# Altium integrated library TI Data Converters Digital to Analog Converter.IntLib: 1533 symbols (part 76 of 99)
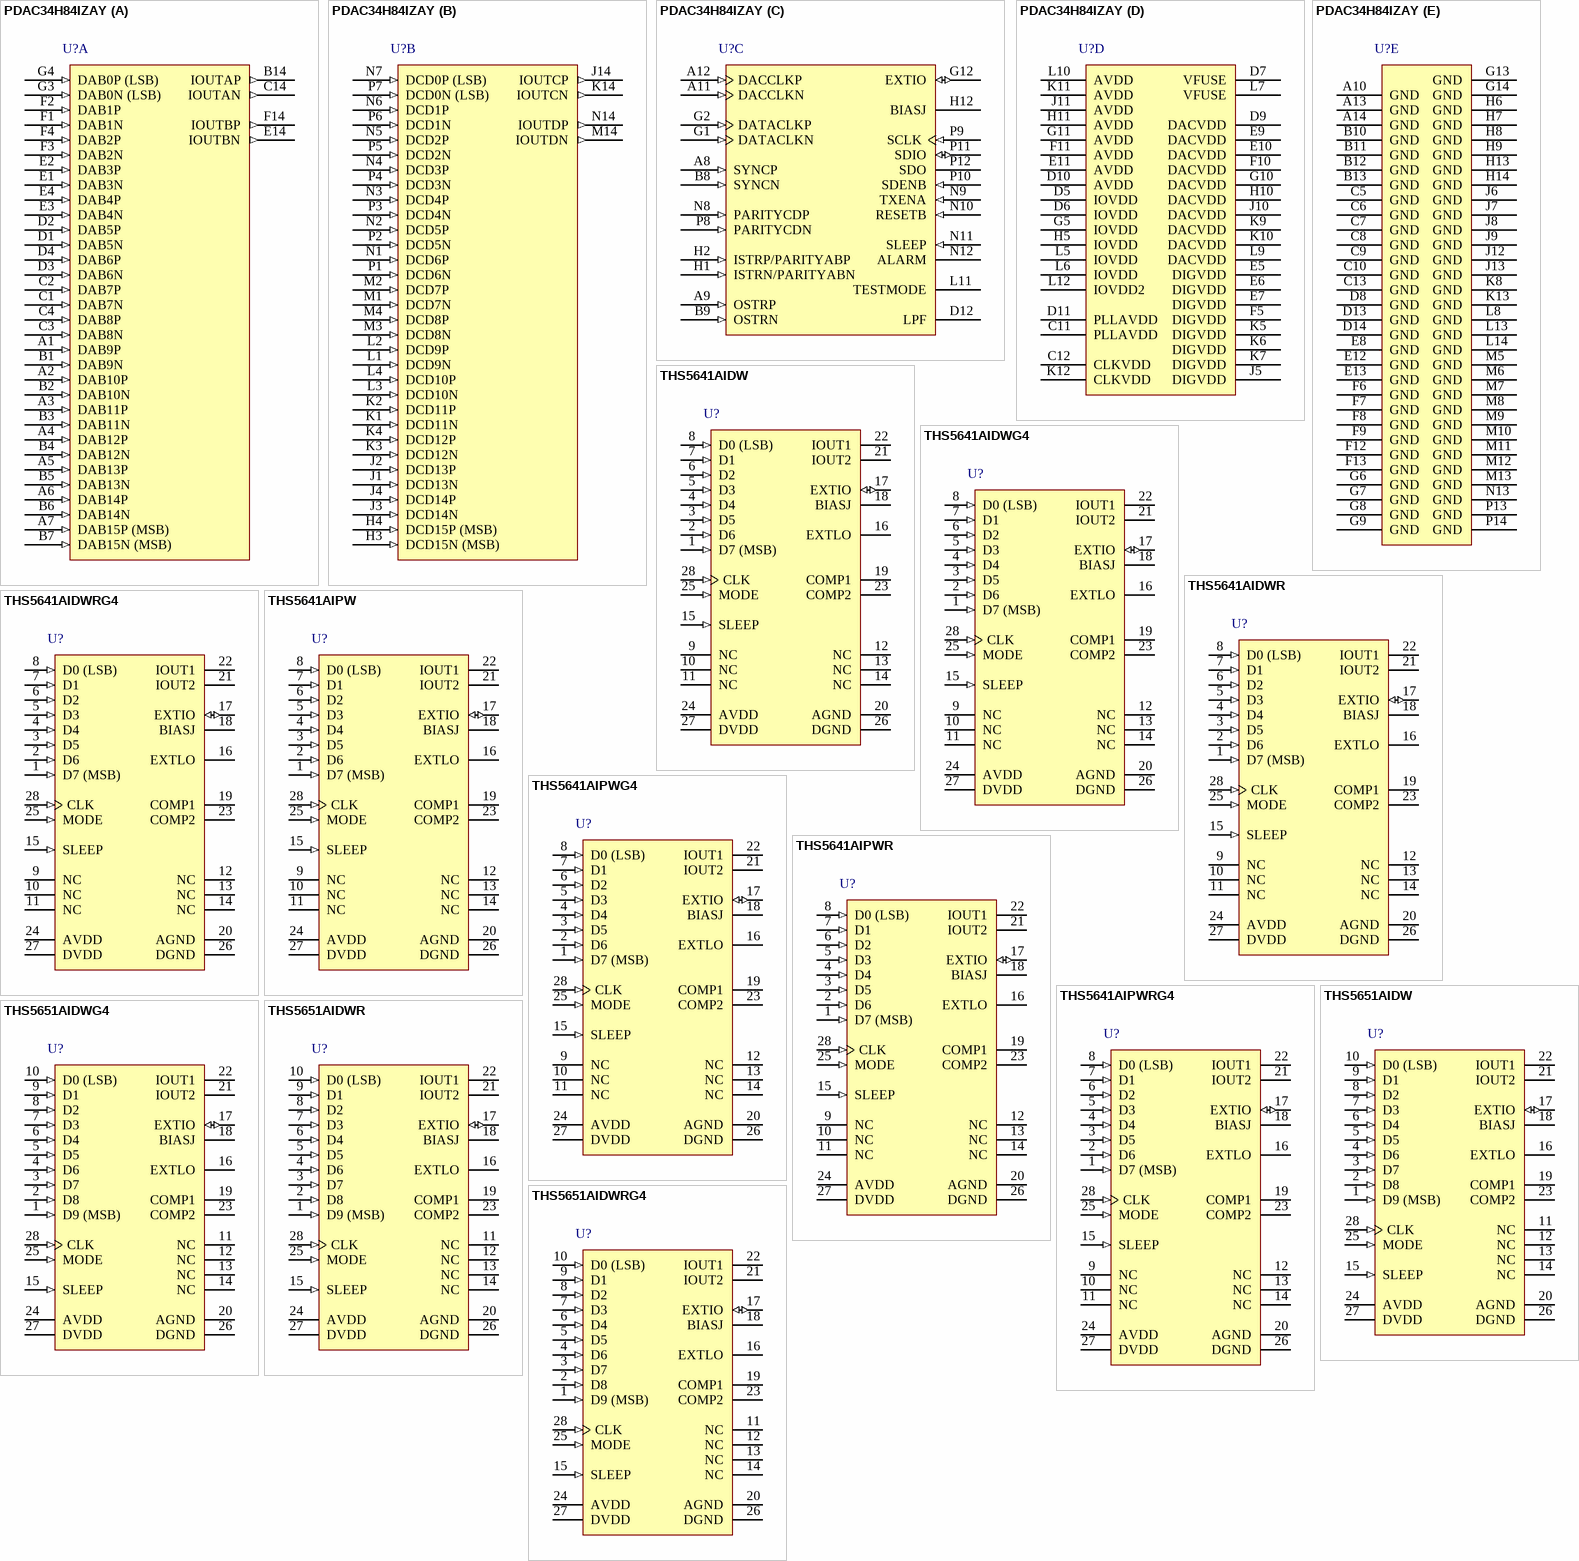
[diagram p148: symbols PDAC34H84IZAY to THS5651AIDWRG4]

## THS5641AIPWR
designator U?
8-Bit, 100 MSPS, CommsDAC(TM) DAC Scalable Current Outputs between 2 to 20 mA, -40 to 85 degC, 28-pin SOP (PW28), Green (RoHS & no Sb/Br); Manufacturer: Texas Instruments; PartNumber: THS5641AIPWR; DAC Channels: 1; DNL(Max)(+/-LSB): 0.25; Interface: Parallel CMOS; Power Consumption(Typ)(mW): 175; Resolution(Bits): 8; Settling Time(us): 0.035; SFDR(dB): 68; SubFamily: High Speed DAC (>10MSPS); DatasheetVersion: SLAS277A; PackageVersion: 4040064-7/G, 02/2011; PackageReference: PW28; PackageDescription: 28-Pin Plastic Small Outline, Body 9.7 x 4.4 mm, Pitch 0.65 mm; Supplier 1: Digi-Key; Supplier Part Number 1: THS5641AIPWR-ND; Supplier 2: Newark; Supplier Part Number 2: 76C6490; Supplier 3: Mouser; Supplier Part Number 3: 595-THS5641AIPWR; Eco-Plan: Green (RoHS & no Sb/Br); INL(Max)(+/-LSB): 0.25; Mounting Technology: Surface Mount; Code_JEDEC: MO-153; ComponentLink1Description: Manufacturer URL; ComponentLink1URL: http://www.ti.com/; ComponentLink2Description: Datasheet; ComponentLink2URL: http://www.ti.com/general/docs/lit/getliterature.tsp?genericPartNumber=THS5641A&fileType=pdf; ComponentLink3Description: Package Specification; ComponentLink3URL: http://www.ti.com/litv/pdf/mpds364
footprint TI-PW28_N (SOP, 28-Leads, Body 9.7x4.4mm, Pitch 0.65mm, IPC Medium Density)
footprint TI-PW28_L (SOP, 28-Leads, Body 9.7x4.4mm, Pitch 0.65mm, IPC High Density)
footprint TI-PW28_M (SOP, 28-Leads, Body 9.7x4.4mm, Pitch 0.65mm, IPC Low Density)
pins: 1 D7 (MSB) (in) "Data bits 0 through 7. D7 is most significant data bit (MSB), D0 is least significant data bit (LSB).", 2 D6 (in) "Data bits 0 through 7. D7 is most significant data bit (MSB), D0 is least significant data bit (LSB).", 3 D5 (in) "Data bits 0 through 7. D7 is most significant data bit (MSB), D0 is least significant data bit (LSB).", 4 D4 (in) "Data bits 0 through 7. D7 is most significant data bit (MSB), D0 is least significant data bit (LSB).", 5 D3 (in) "Data bits 0 through 7. D7 is most significant data bit (MSB), D0 is least significant data bit (LSB).", 6 D2 (in) "Data bits 0 through 7. D7 is most significant data bit (MSB), D0 is least significant data bit (LSB).", 7 D1 (in) "Data bits 0 through 7. D7 is most significant data bit (MSB), D0 is least significant data bit (LSB).", 8 D0 (LSB) (in) "Data bits 0 through 7. D7 is most significant data bit (MSB), D0 is least significant data bit (LSB).", 9 NC "No connection", 10 NC "No connection", 11 NC "No connection", 12 NC "No connection", 13 NC "No connection", 14 NC "No connection", 15 SLEEP (in) "Asynchronous hardware power down input. Active High. Internal pulldown. Requires 5 us to power down but 3 ms to power up.", 16 EXTLO "Internal reference ground. Connect to AVDD to disable the internal reference source", 17 EXTIO (io) "Used as external reference input when internal reference is disabled (i.e., EXTLO = AVDD). Used as internal reference output when EXTLO = AGND, requires a 0.1 uF decoupling capacitor to AGND when used as reference output", 18 BIASJ "Full-scale output current bias", 19 COMP1 "Compensation and decoupling node, requires a 0.1 uF capacitor to AVDD.", 20 AGND (power) "Analog ground return for the internal analog circuitry", 21 IOUT2 (hiz) "Complementary DAC current output. Full scale when all input bits are 0", 22 IOUT1 (hiz) "DAC current output. Full scale when all input bits are set 1", 23 COMP2 "Internal bias node, requires a 0.1 uF decoupling capacitor to AGND.", 24 AVDD (power) "Positive analog supply voltage (3 V to 5.5 V)", 25 MODE (in) "Mode select. Internal pulldown. Mode 0 is selected if this pin is left floating or connected to DGND. See timing diagram.", 26 DGND (power) "Digital ground return for the internal digital logic circuitry", 27 DVDD (power) "Positive digital supply voltage (3 V to 5.5 V)", 28 CLK (in) "External clock input. Input data latched on rising edge of the clock."

## THS5641AIPWRG4
designator U?
8-Bit, 100 MSPS, CommsDAC(TM) DAC Scalable Current Outputs between 2 to 20 mA, -40 to 85 degC, 28-pin SOP (PW28), Green (RoHS & no Sb/Br); Manufacturer: Texas Instruments; PartNumber: THS5641AIPWRG4; DAC Channels: 1; DNL(Max)(+/-LSB): 0.25; Interface: Parallel CMOS; Power Consumption(Typ)(mW): 175; Resolution(Bits): 8; Settling Time(us): 0.035; SFDR(dB): 68; SubFamily: High Speed DAC (>10MSPS); DatasheetVersion: SLAS277A; PackageVersion: 4040064-7/G, 02/2011; PackageReference: PW28; PackageDescription: 28-Pin Plastic Small Outline, Body 9.7 x 4.4 mm, Pitch 0.65 mm; Supplier 1: Digi-Key; Supplier Part Number 1: THS5641AIPWRG4-ND; Supplier 2: Mouser; Supplier Part Number 2: 595-THS5641AIPWRG4; Eco-Plan: Green (RoHS & no Sb/Br); INL(Max)(+/-LSB): 0.25; Mounting Technology: Surface Mount; Code_JEDEC: MO-153; ComponentLink1Description: Manufacturer URL; ComponentLink1URL: http://www.ti.com/; ComponentLink2Description: Datasheet; ComponentLink2URL: http://www.ti.com/general/docs/lit/getliterature.tsp?genericPartNumber=THS5641A&fileType=pdf; ComponentLink3Description: Package Specification; ComponentLink3URL: http://www.ti.com/litv/pdf/mpds364
footprint TI-PW28_N (SOP, 28-Leads, Body 9.7x4.4mm, Pitch 0.65mm, IPC Medium Density)
footprint TI-PW28_L (SOP, 28-Leads, Body 9.7x4.4mm, Pitch 0.65mm, IPC High Density)
footprint TI-PW28_M (SOP, 28-Leads, Body 9.7x4.4mm, Pitch 0.65mm, IPC Low Density)
pins: 1 D7 (MSB) (in) "Data bits 0 through 7. D7 is most significant data bit (MSB), D0 is least significant data bit (LSB).", 2 D6 (in) "Data bits 0 through 7. D7 is most significant data bit (MSB), D0 is least significant data bit (LSB).", 3 D5 (in) "Data bits 0 through 7. D7 is most significant data bit (MSB), D0 is least significant data bit (LSB).", 4 D4 (in) "Data bits 0 through 7. D7 is most significant data bit (MSB), D0 is least significant data bit (LSB).", 5 D3 (in) "Data bits 0 through 7. D7 is most significant data bit (MSB), D0 is least significant data bit (LSB).", 6 D2 (in) "Data bits 0 through 7. D7 is most significant data bit (MSB), D0 is least significant data bit (LSB).", 7 D1 (in) "Data bits 0 through 7. D7 is most significant data bit (MSB), D0 is least significant data bit (LSB).", 8 D0 (LSB) (in) "Data bits 0 through 7. D7 is most significant data bit (MSB), D0 is least significant data bit (LSB).", 9 NC "No connection", 10 NC "No connection", 11 NC "No connection", 12 NC "No connection", 13 NC "No connection", 14 NC "No connection", 15 SLEEP (in) "Asynchronous hardware power down input. Active High. Internal pulldown. Requires 5 us to power down but 3 ms to power up.", 16 EXTLO "Internal reference ground. Connect to AVDD to disable the internal reference source", 17 EXTIO (io) "Used as external reference input when internal reference is disabled (i.e., EXTLO = AVDD). Used as internal reference output when EXTLO = AGND, requires a 0.1 uF decoupling capacitor to AGND when used as reference output", 18 BIASJ "Full-scale output current bias", 19 COMP1 "Compensation and decoupling node, requires a 0.1 uF capacitor to AVDD.", 20 AGND (power) "Analog ground return for the internal analog circuitry", 21 IOUT2 (hiz) "Complementary DAC current output. Full scale when all input bits are 0", 22 IOUT1 (hiz) "DAC current output. Full scale when all input bits are set 1", 23 COMP2 "Internal bias node, requires a 0.1 uF decoupling capacitor to AGND.", 24 AVDD (power) "Positive analog supply voltage (3 V to 5.5 V)", 25 MODE (in) "Mode select. Internal pulldown. Mode 0 is selected if this pin is left floating or connected to DGND. See timing diagram.", 26 DGND (power) "Digital ground return for the internal digital logic circuitry", 27 DVDD (power) "Positive digital supply voltage (3 V to 5.5 V)", 28 CLK (in) "External clock input. Input data latched on rising edge of the clock."

## THS5651AIDW
designator U?
10-Bit, 125 MSPS, CommsDAC, Differential Scalable Current Outputs between 2 to 20 mA, -40 to 85 degC, 28-pin SOIC (DW28), Green (RoHS & no Sb/Br); Manufacturer: Texas Instruments; PartNumber: THS5651AIDW; DAC Channels: 1; DNL(Max)(+/-LSB): 0.5; Interface: Parallel CMOS; Power Consumption(Typ)(mW): 175; Resolution(Bits): 10; Settling Time(us): 0.035; SFDR(dB): 79; SubFamily: High Speed DAC (>10MSPS); DatasheetVersion: SLAS260A; PackageVersion: 4040000-6/G, 01/2011; PackageReference: DW28; PackageDescription: 28-Pin Plastic Small Outline, Body 17.90 x 7.50 mm, Pitch 1.27 mm; Supplier 1: Digi-Key; Supplier Part Number 1: 296-2992-5-ND; Supplier 2: Farnell; Supplier Part Number 2: 4512492; Supplier 3: Newark; Supplier Part Number 3: 19C8978; Supplier 4: Mouser; Supplier Part Number 4: 595-THS5651AIDW; Eco-Plan: Green (RoHS & no Sb/Br); INL(Max)(+/-LSB): 1; Mounting Technology: Surface Mount; Code_JEDEC: MS-013; ComponentLink1Description: Manufacturer URL; ComponentLink1URL: http://www.ti.com/; ComponentLink2Description: Datasheet; ComponentLink2URL: http://www.ti.com/general/docs/lit/getliterature.tsp?genericPartNumber=THS5651A&fileType=pdf; ComponentLink3Description: Package Specification; ComponentLink3URL: http://www.ti.com/lit/ml/mpds175a/mpds175a.pdf
footprint TI-DW28_N (SOIC, 28-Leads, Body 17.9x7.5mm, Pitch 1.27mm, IPC Medium Density)
footprint TI-DW28_L (SOIC, 28-Leads, Body 17.9x7.5mm, Pitch 1.27mm, IPC High Density)
footprint TI-DW28_M (SOIC, 28-Leads, Body 17.9x7.5mm, Pitch 1.27mm, IPC Low Density)
pins: 1 D9 (MSB) (in) "Data bits 0 through 9. D9 is most significant data bit (MSB), D0 is least significant data bit (LSB).", 2 D8 (in) "Data bits 0 through 9. D9 is most significant data bit (MSB), D0 is least significant data bit (LSB).", 3 D7 (in) "Data bits 0 through 9. D9 is most significant data bit (MSB), D0 is least significant data bit (LSB).", 4 D6 (in) "Data bits 0 through 9. D9 is most significant data bit (MSB), D0 is least significant data bit (LSB).", 5 D5 (in) "Data bits 0 through 9. D9 is most significant data bit (MSB), D0 is least significant data bit (LSB).", 6 D4 (in) "Data bits 0 through 9. D9 is most significant data bit (MSB), D0 is least significant data bit (LSB).", 7 D3 (in) "Data bits 0 through 9. D9 is most significant data bit (MSB), D0 is least significant data bit (LSB).", 8 D2 (in) "Data bits 0 through 9. D9 is most significant data bit (MSB), D0 is least significant data bit (LSB).", 9 D1 (in) "Data bits 0 through 9. D9 is most significant data bit (MSB), D0 is least significant data bit (LSB).", 10 D0 (LSB) (in) "Data bits 0 through 9. D9 is most significant data bit (MSB), D0 is least significant data bit (LSB).", 11 NC "No connection", 12 NC "No connection", 13 NC "No connection", 14 NC "No connection", 15 SLEEP (in) "Asynchronous hardware power down input. Active High. Internal pulldown. Requires 5 us to power down but 3 ms to power up.", 16 EXTLO "Internal reference ground. Connect to AVDD to disable the internal reference source", 17 EXTIO (io) "Used as external reference input when internal reference is disabled (i.e., EXTLO = AVDD). Used as internal reference output when EXTLO = AGND, requires a 0.1 uF decoupling capacitor to AGND when used as reference output", 18 BIASJ "Full-scale output current bias", 19 COMP1 "Compensation and decoupling node, requires a 0.1 uF capacitor to AVDD.", 20 AGND (power) "Analog ground return for the internal analog circuitry", 21 IOUT2 (hiz) "Complementary DAC current output. Full scale when all input bits are 0", 22 IOUT1 (hiz) "DAC current output. Full scale when all input bits are set 1", 23 COMP2 "Internal bias node, requires a 0.1 uF decoupling capacitor to AGND.", 24 AVDD (power) "Positive analog supply voltage (3 V to 5.5 V)", 25 MODE (in) "Mode select. Internal pulldown. Mode 0 is selected if this pin is left floating or connected to DGND. See timing diagram.", 26 DGND (power) "Digital ground return for the internal digital logic circuitry", 27 DVDD (power) "Positive digital supply voltage (3 V to 5.5 V)", 28 CLK (in) "External clock input. Input data latched on rising edge of the clock."

## THS5651AIDWG4
designator U?
10-Bit, 125 MSPS, CommsDAC, Differential Scalable Current Outputs between 2 to 20 mA, -40 to 85 degC, 28-pin SOIC (DW28), Green (RoHS & no Sb/Br); Manufacturer: Texas Instruments; PartNumber: THS5651AIDWG4; DAC Channels: 1; DNL(Max)(+/-LSB): 0.5; Interface: Parallel CMOS; Power Consumption(Typ)(mW): 175; Resolution(Bits): 10; Settling Time(us): 0.035; SFDR(dB): 79; SubFamily: High Speed DAC (>10MSPS); DatasheetVersion: SLAS260A; PackageVersion: 4040000-6/G, 01/2011; PackageReference: DW28; PackageDescription: 28-Pin Plastic Small Outline, Body 17.90 x 7.50 mm, Pitch 1.27 mm; Supplier 1: Digi-Key; Supplier Part Number 1: THS5651AIDWG4-ND; Supplier 2: Mouser; Supplier Part Number 2: 595-THS5651AIDWG4; Eco-Plan: Green (RoHS & no Sb/Br); INL(Max)(+/-LSB): 1; Mounting Technology: Surface Mount; Code_JEDEC: MS-013; ComponentLink1Description: Manufacturer URL; ComponentLink1URL: http://www.ti.com/; ComponentLink2Description: Datasheet; ComponentLink2URL: http://www.ti.com/general/docs/lit/getliterature.tsp?genericPartNumber=THS5651A&fileType=pdf; ComponentLink3Description: Package Specification; ComponentLink3URL: http://www.ti.com/lit/ml/mpds175a/mpds175a.pdf
footprint TI-DW28_N (SOIC, 28-Leads, Body 17.9x7.5mm, Pitch 1.27mm, IPC Medium Density)
footprint TI-DW28_L (SOIC, 28-Leads, Body 17.9x7.5mm, Pitch 1.27mm, IPC High Density)
footprint TI-DW28_M (SOIC, 28-Leads, Body 17.9x7.5mm, Pitch 1.27mm, IPC Low Density)
pins: 1 D9 (MSB) (in) "Data bits 0 through 9. D9 is most significant data bit (MSB), D0 is least significant data bit (LSB).", 2 D8 (in) "Data bits 0 through 9. D9 is most significant data bit (MSB), D0 is least significant data bit (LSB).", 3 D7 (in) "Data bits 0 through 9. D9 is most significant data bit (MSB), D0 is least significant data bit (LSB).", 4 D6 (in) "Data bits 0 through 9. D9 is most significant data bit (MSB), D0 is least significant data bit (LSB).", 5 D5 (in) "Data bits 0 through 9. D9 is most significant data bit (MSB), D0 is least significant data bit (LSB).", 6 D4 (in) "Data bits 0 through 9. D9 is most significant data bit (MSB), D0 is least significant data bit (LSB).", 7 D3 (in) "Data bits 0 through 9. D9 is most significant data bit (MSB), D0 is least significant data bit (LSB).", 8 D2 (in) "Data bits 0 through 9. D9 is most significant data bit (MSB), D0 is least significant data bit (LSB).", 9 D1 (in) "Data bits 0 through 9. D9 is most significant data bit (MSB), D0 is least significant data bit (LSB).", 10 D0 (LSB) (in) "Data bits 0 through 9. D9 is most significant data bit (MSB), D0 is least significant data bit (LSB).", 11 NC "No connection", 12 NC "No connection", 13 NC "No connection", 14 NC "No connection", 15 SLEEP (in) "Asynchronous hardware power down input. Active High. Internal pulldown. Requires 5 us to power down but 3 ms to power up.", 16 EXTLO "Internal reference ground. Connect to AVDD to disable the internal reference source", 17 EXTIO (io) "Used as external reference input when internal reference is disabled (i.e., EXTLO = AVDD). Used as internal reference output when EXTLO = AGND, requires a 0.1 uF decoupling capacitor to AGND when used as reference output", 18 BIASJ "Full-scale output current bias", 19 COMP1 "Compensation and decoupling node, requires a 0.1 uF capacitor to AVDD.", 20 AGND (power) "Analog ground return for the internal analog circuitry", 21 IOUT2 (hiz) "Complementary DAC current output. Full scale when all input bits are 0", 22 IOUT1 (hiz) "DAC current output. Full scale when all input bits are set 1", 23 COMP2 "Internal bias node, requires a 0.1 uF decoupling capacitor to AGND.", 24 AVDD (power) "Positive analog supply voltage (3 V to 5.5 V)", 25 MODE (in) "Mode select. Internal pulldown. Mode 0 is selected if this pin is left floating or connected to DGND. See timing diagram.", 26 DGND (power) "Digital ground return for the internal digital logic circuitry", 27 DVDD (power) "Positive digital supply voltage (3 V to 5.5 V)", 28 CLK (in) "External clock input. Input data latched on rising edge of the clock."

## THS5651AIDWR
designator U?
10-Bit, 125 MSPS, CommsDAC, Differential Scalable Current Outputs between 2 to 20 mA, -40 to 85 degC, 28-pin SOIC (DW28), Green (RoHS & no Sb/Br); Manufacturer: Texas Instruments; PartNumber: THS5651AIDWR; DAC Channels: 1; DNL(Max)(+/-LSB): 0.5; Interface: Parallel CMOS; Power Consumption(Typ)(mW): 175; Resolution(Bits): 10; Settling Time(us): 0.035; SFDR(dB): 79; SubFamily: High Speed DAC (>10MSPS); DatasheetVersion: SLAS260A; PackageVersion: 4040000-6/G, 01/2011; PackageReference: DW28; PackageDescription: 28-Pin Plastic Small Outline, Body 17.90 x 7.50 mm, Pitch 1.27 mm; Supplier 1: Digi-Key; Supplier Part Number 1: THS5651AIDWR-ND; Supplier 2: Mouser; Supplier Part Number 2: 595-THS5651AIDWR; Eco-Plan: Green (RoHS & no Sb/Br); INL(Max)(+/-LSB): 1; Mounting Technology: Surface Mount; Code_JEDEC: MS-013; ComponentLink1Description: Manufacturer URL; ComponentLink1URL: http://www.ti.com/; ComponentLink2Description: Datasheet; ComponentLink2URL: http://www.ti.com/general/docs/lit/getliterature.tsp?genericPartNumber=THS5651A&fileType=pdf; ComponentLink3Description: Package Specification; ComponentLink3URL: http://www.ti.com/lit/ml/mpds175a/mpds175a.pdf
footprint TI-DW28_N (SOIC, 28-Leads, Body 17.9x7.5mm, Pitch 1.27mm, IPC Medium Density)
footprint TI-DW28_L (SOIC, 28-Leads, Body 17.9x7.5mm, Pitch 1.27mm, IPC High Density)
footprint TI-DW28_M (SOIC, 28-Leads, Body 17.9x7.5mm, Pitch 1.27mm, IPC Low Density)
pins: 1 D9 (MSB) (in) "Data bits 0 through 9. D9 is most significant data bit (MSB), D0 is least significant data bit (LSB).", 2 D8 (in) "Data bits 0 through 9. D9 is most significant data bit (MSB), D0 is least significant data bit (LSB).", 3 D7 (in) "Data bits 0 through 9. D9 is most significant data bit (MSB), D0 is least significant data bit (LSB).", 4 D6 (in) "Data bits 0 through 9. D9 is most significant data bit (MSB), D0 is least significant data bit (LSB).", 5 D5 (in) "Data bits 0 through 9. D9 is most significant data bit (MSB), D0 is least significant data bit (LSB).", 6 D4 (in) "Data bits 0 through 9. D9 is most significant data bit (MSB), D0 is least significant data bit (LSB).", 7 D3 (in) "Data bits 0 through 9. D9 is most significant data bit (MSB), D0 is least significant data bit (LSB).", 8 D2 (in) "Data bits 0 through 9. D9 is most significant data bit (MSB), D0 is least significant data bit (LSB).", 9 D1 (in) "Data bits 0 through 9. D9 is most significant data bit (MSB), D0 is least significant data bit (LSB).", 10 D0 (LSB) (in) "Data bits 0 through 9. D9 is most significant data bit (MSB), D0 is least significant data bit (LSB).", 11 NC "No connection", 12 NC "No connection", 13 NC "No connection", 14 NC "No connection", 15 SLEEP (in) "Asynchronous hardware power down input. Active High. Internal pulldown. Requires 5 us to power down but 3 ms to power up.", 16 EXTLO "Internal reference ground. Connect to AVDD to disable the internal reference source", 17 EXTIO (io) "Used as external reference input when internal reference is disabled (i.e., EXTLO = AVDD). Used as internal reference output when EXTLO = AGND, requires a 0.1 uF decoupling capacitor to AGND when used as reference output", 18 BIASJ "Full-scale output current bias", 19 COMP1 "Compensation and decoupling node, requires a 0.1 uF capacitor to AVDD.", 20 AGND (power) "Analog ground return for the internal analog circuitry", 21 IOUT2 (hiz) "Complementary DAC current output. Full scale when all input bits are 0", 22 IOUT1 (hiz) "DAC current output. Full scale when all input bits are set 1", 23 COMP2 "Internal bias node, requires a 0.1 uF decoupling capacitor to AGND.", 24 AVDD (power) "Positive analog supply voltage (3 V to 5.5 V)", 25 MODE (in) "Mode select. Internal pulldown. Mode 0 is selected if this pin is left floating or connected to DGND. See timing diagram.", 26 DGND (power) "Digital ground return for the internal digital logic circuitry", 27 DVDD (power) "Positive digital supply voltage (3 V to 5.5 V)", 28 CLK (in) "External clock input. Input data latched on rising edge of the clock."

## THS5651AIDWRG4
designator U?
10-Bit, 125 MSPS, CommsDAC, Differential Scalable Current Outputs between 2 to 20 mA, -40 to 85 degC, 28-pin SOIC (DW28), Green (RoHS & no Sb/Br); Manufacturer: Texas Instruments; PartNumber: THS5651AIDWRG4; DAC Channels: 1; DNL(Max)(+/-LSB): 0.5; Interface: Parallel CMOS; Power Consumption(Typ)(mW): 175; Resolution(Bits): 10; Settling Time(us): 0.035; SFDR(dB): 79; SubFamily: High Speed DAC (>10MSPS); DatasheetVersion: SLAS260A; PackageVersion: 4040000-6/G, 01/2011; PackageReference: DW28; PackageDescription: 28-Pin Plastic Small Outline, Body 17.90 x 7.50 mm, Pitch 1.27 mm; Supplier 1: Digi-Key; Supplier Part Number 1: THS5651AIDWRG4-ND; Supplier 2: Mouser; Supplier Part Number 2: 595-THS5651AIDWRG4; Eco-Plan: Green (RoHS & no Sb/Br); INL(Max)(+/-LSB): 1; Mounting Technology: Surface Mount; Code_JEDEC: MS-013; ComponentLink1Description: Manufacturer URL; ComponentLink1URL: http://www.ti.com/; ComponentLink2Description: Datasheet; ComponentLink2URL: http://www.ti.com/general/docs/lit/getliterature.tsp?genericPartNumber=THS5651A&fileType=pdf; ComponentLink3Description: Package Specification; ComponentLink3URL: http://www.ti.com/lit/ml/mpds175a/mpds175a.pdf
footprint TI-DW28_N (SOIC, 28-Leads, Body 17.9x7.5mm, Pitch 1.27mm, IPC Medium Density)
footprint TI-DW28_L (SOIC, 28-Leads, Body 17.9x7.5mm, Pitch 1.27mm, IPC High Density)
footprint TI-DW28_M (SOIC, 28-Leads, Body 17.9x7.5mm, Pitch 1.27mm, IPC Low Density)
pins: 1 D9 (MSB) (in) "Data bits 0 through 9. D9 is most significant data bit (MSB), D0 is least significant data bit (LSB).", 2 D8 (in) "Data bits 0 through 9. D9 is most significant data bit (MSB), D0 is least significant data bit (LSB).", 3 D7 (in) "Data bits 0 through 9. D9 is most significant data bit (MSB), D0 is least significant data bit (LSB).", 4 D6 (in) "Data bits 0 through 9. D9 is most significant data bit (MSB), D0 is least significant data bit (LSB).", 5 D5 (in) "Data bits 0 through 9. D9 is most significant data bit (MSB), D0 is least significant data bit (LSB).", 6 D4 (in) "Data bits 0 through 9. D9 is most significant data bit (MSB), D0 is least significant data bit (LSB).", 7 D3 (in) "Data bits 0 through 9. D9 is most significant data bit (MSB), D0 is least significant data bit (LSB).", 8 D2 (in) "Data bits 0 through 9. D9 is most significant data bit (MSB), D0 is least significant data bit (LSB).", 9 D1 (in) "Data bits 0 through 9. D9 is most significant data bit (MSB), D0 is least significant data bit (LSB).", 10 D0 (LSB) (in) "Data bits 0 through 9. D9 is most significant data bit (MSB), D0 is least significant data bit (LSB).", 11 NC "No connection", 12 NC "No connection", 13 NC "No connection", 14 NC "No connection", 15 SLEEP (in) "Asynchronous hardware power down input. Active High. Internal pulldown. Requires 5 us to power down but 3 ms to power up.", 16 EXTLO "Internal reference ground. Connect to AVDD to disable the internal reference source", 17 EXTIO (io) "Used as external reference input when internal reference is disabled (i.e., EXTLO = AVDD). Used as internal reference output when EXTLO = AGND, requires a 0.1 uF decoupling capacitor to AGND when used as reference output", 18 BIASJ "Full-scale output current bias", 19 COMP1 "Compensation and decoupling node, requires a 0.1 uF capacitor to AVDD.", 20 AGND (power) "Analog ground return for the internal analog circuitry", 21 IOUT2 (hiz) "Complementary DAC current output. Full scale when all input bits are 0", 22 IOUT1 (hiz) "DAC current output. Full scale when all input bits are set 1", 23 COMP2 "Internal bias node, requires a 0.1 uF decoupling capacitor to AGND.", 24 AVDD (power) "Positive analog supply voltage (3 V to 5.5 V)", 25 MODE (in) "Mode select. Internal pulldown. Mode 0 is selected if this pin is left floating or connected to DGND. See timing diagram.", 26 DGND (power) "Digital ground return for the internal digital logic circuitry", 27 DVDD (power) "Positive digital supply voltage (3 V to 5.5 V)", 28 CLK (in) "External clock input. Input data latched on rising edge of the clock."

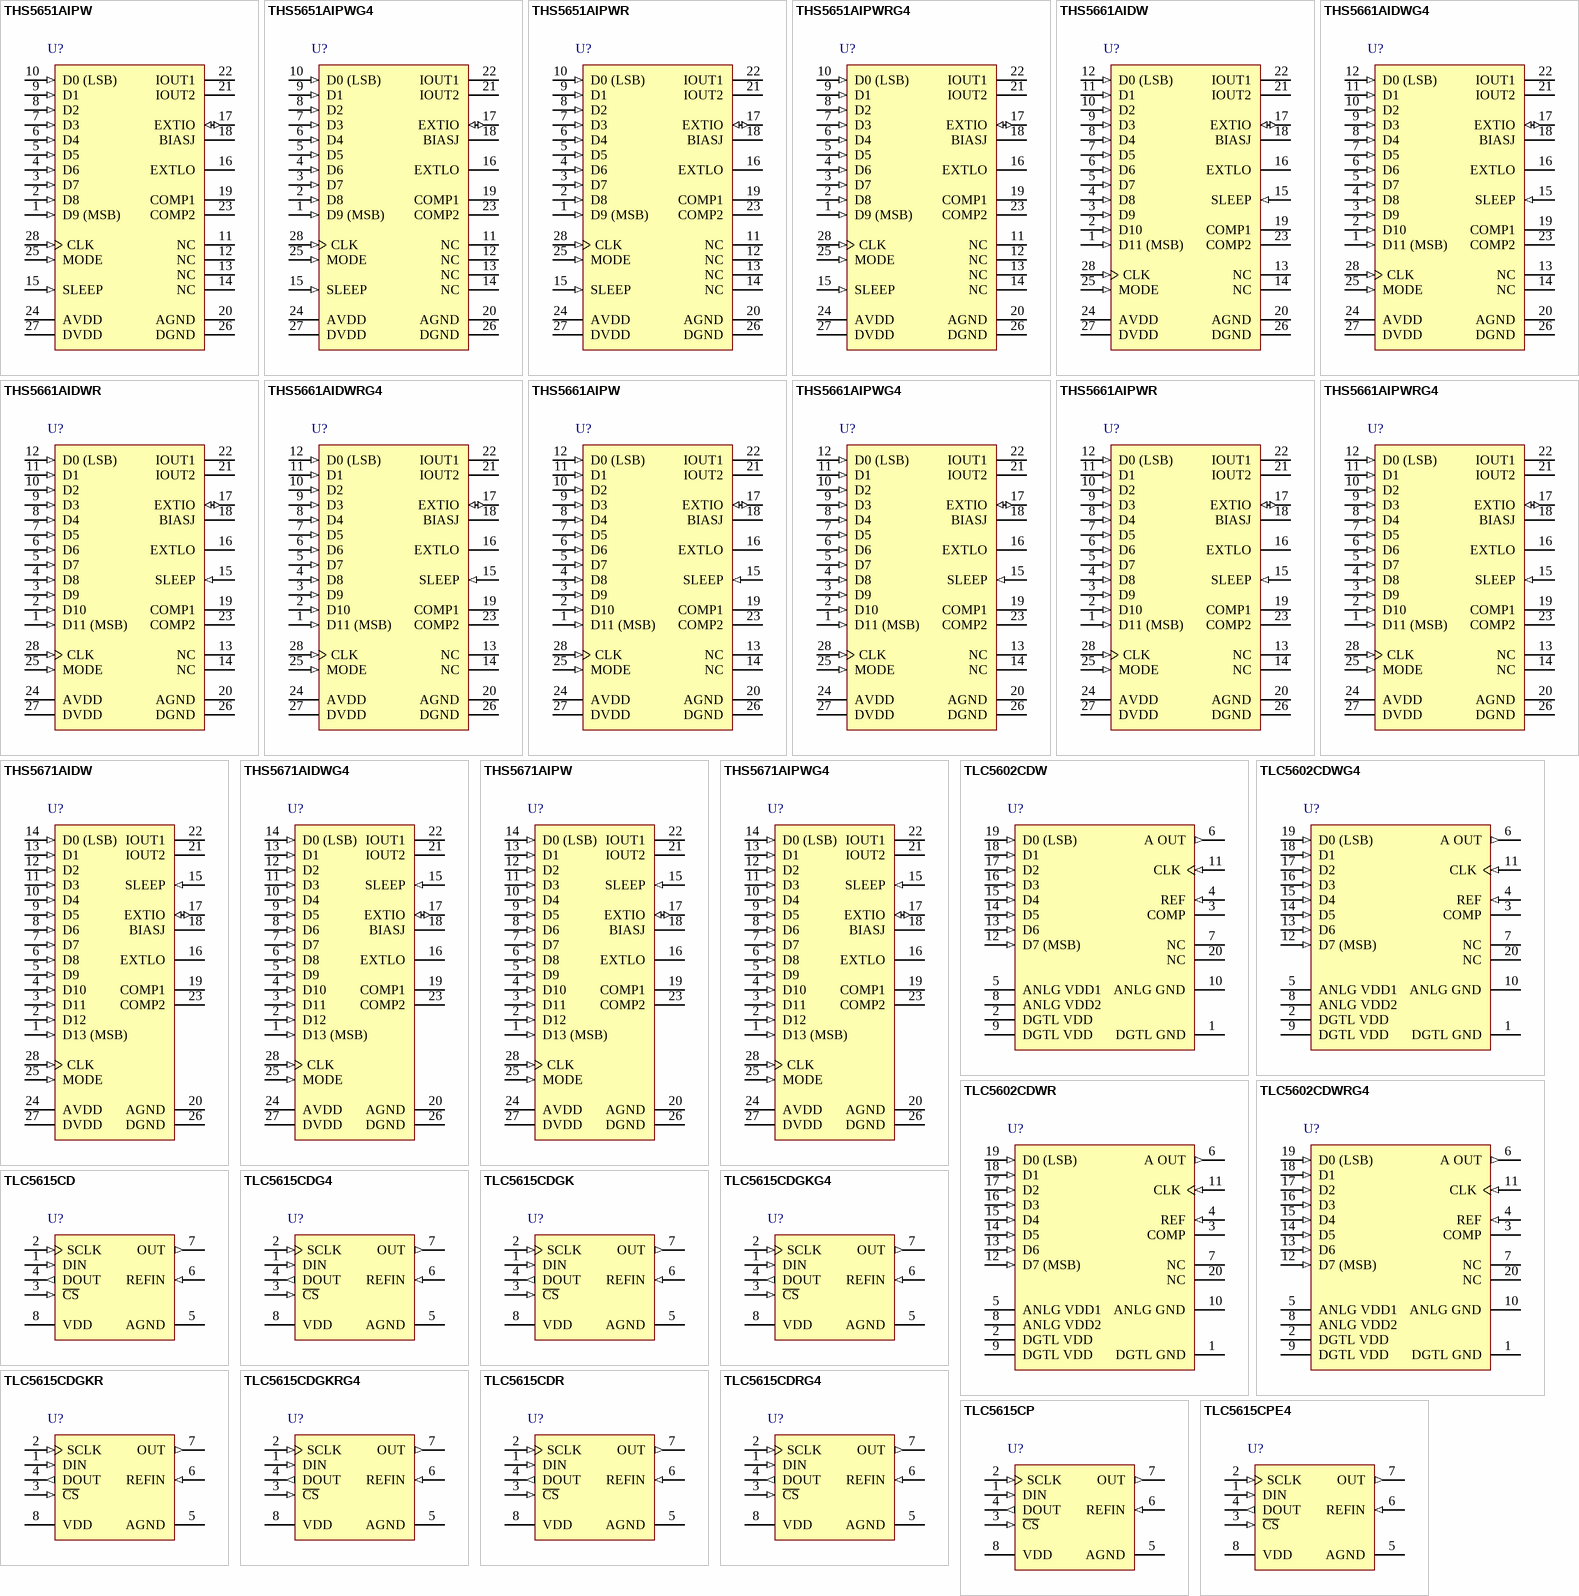
[diagram p57: symbols THS5651AIPW to TLC5615CPE4]

## THS5651AIPW
designator U?
10-Bit, 125 MSPS, CommsDAC, Differential Scalable Current Outputs between 2 to 20 mA, -40 to 85 degC, 28-pin SOP (PW28), Green (RoHS & no Sb/Br); Manufacturer: Texas Instruments; PartNumber: THS5651AIPW; DAC Channels: 1; DNL(Max)(+/-LSB): 0.5; Interface: Parallel CMOS; Power Consumption(Typ)(mW): 175; Resolution(Bits): 10; Settling Time(us): 0.035; SFDR(dB): 79; SubFamily: High Speed DAC (>10MSPS); DatasheetVersion: SLAS260A; PackageVersion: 4040064-7/G, 02/2011; PackageReference: PW28; PackageDescription: 28-Pin Plastic Small Outline, Body 9.7 x 4.4 mm, Pitch 0.65 mm; Supplier 1: Digi-Key; Supplier Part Number 1: 296-2287-5-ND; Supplier 2: Newark; Supplier Part Number 2: 76C6493; Supplier 3: Mouser; Supplier Part Number 3: 595-THS5651AIPW; Eco-Plan: Green (RoHS & no Sb/Br); INL(Max)(+/-LSB): 1; Mounting Technology: Surface Mount; Code_JEDEC: MO-153; ComponentLink1Description: Manufacturer URL; ComponentLink1URL: http://www.ti.com/; ComponentLink2Description: Datasheet; ComponentLink2URL: http://www.ti.com/general/docs/lit/getliterature.tsp?genericPartNumber=THS5651A&fileType=pdf; ComponentLink3Description: Package Specification; ComponentLink3URL: http://www.ti.com/litv/pdf/mpds364
footprint TI-PW28_N (SOP, 28-Leads, Body 9.7x4.4mm, Pitch 0.65mm, IPC Medium Density)
footprint TI-PW28_L (SOP, 28-Leads, Body 9.7x4.4mm, Pitch 0.65mm, IPC High Density)
footprint TI-PW28_M (SOP, 28-Leads, Body 9.7x4.4mm, Pitch 0.65mm, IPC Low Density)
pins: 1 D9 (MSB) (in) "Data bits 0 through 9. D9 is most significant data bit (MSB), D0 is least significant data bit (LSB).", 2 D8 (in) "Data bits 0 through 9. D9 is most significant data bit (MSB), D0 is least significant data bit (LSB).", 3 D7 (in) "Data bits 0 through 9. D9 is most significant data bit (MSB), D0 is least significant data bit (LSB).", 4 D6 (in) "Data bits 0 through 9. D9 is most significant data bit (MSB), D0 is least significant data bit (LSB).", 5 D5 (in) "Data bits 0 through 9. D9 is most significant data bit (MSB), D0 is least significant data bit (LSB).", 6 D4 (in) "Data bits 0 through 9. D9 is most significant data bit (MSB), D0 is least significant data bit (LSB).", 7 D3 (in) "Data bits 0 through 9. D9 is most significant data bit (MSB), D0 is least significant data bit (LSB).", 8 D2 (in) "Data bits 0 through 9. D9 is most significant data bit (MSB), D0 is least significant data bit (LSB).", 9 D1 (in) "Data bits 0 through 9. D9 is most significant data bit (MSB), D0 is least significant data bit (LSB).", 10 D0 (LSB) (in) "Data bits 0 through 9. D9 is most significant data bit (MSB), D0 is least significant data bit (LSB).", 11 NC "No connection", 12 NC "No connection", 13 NC "No connection", 14 NC "No connection", 15 SLEEP (in) "Asynchronous hardware power down input. Active High. Internal pulldown. Requires 5 us to power down but 3 ms to power up.", 16 EXTLO "Internal reference ground. Connect to AVDD to disable the internal reference source", 17 EXTIO (io) "Used as external reference input when internal reference is disabled (i.e., EXTLO = AVDD). Used as internal reference output when EXTLO = AGND, requires a 0.1 uF decoupling capacitor to AGND when used as reference output", 18 BIASJ "Full-scale output current bias", 19 COMP1 "Compensation and decoupling node, requires a 0.1 uF capacitor to AVDD.", 20 AGND (power) "Analog ground return for the internal analog circuitry", 21 IOUT2 (hiz) "Complementary DAC current output. Full scale when all input bits are 0", 22 IOUT1 (hiz) "DAC current output. Full scale when all input bits are set 1", 23 COMP2 "Internal bias node, requires a 0.1 uF decoupling capacitor to AGND.", 24 AVDD (power) "Positive analog supply voltage (3 V to 5.5 V)", 25 MODE (in) "Mode select. Internal pulldown. Mode 0 is selected if this pin is left floating or connected to DGND. See timing diagram.", 26 DGND (power) "Digital ground return for the internal digital logic circuitry", 27 DVDD (power) "Positive digital supply voltage (3 V to 5.5 V)", 28 CLK (in) "External clock input. Input data latched on rising edge of the clock."

## THS5651AIPWG4
designator U?
10-Bit, 125 MSPS, CommsDAC, Differential Scalable Current Outputs between 2 to 20 mA, -40 to 85 degC, 28-pin SOP (PW28), Green (RoHS & no Sb/Br); Manufacturer: Texas Instruments; PartNumber: THS5651AIPWG4; DAC Channels: 1; DNL(Max)(+/-LSB): 0.5; Interface: Parallel CMOS; Power Consumption(Typ)(mW): 175; Resolution(Bits): 10; Settling Time(us): 0.035; SFDR(dB): 79; SubFamily: High Speed DAC (>10MSPS); DatasheetVersion: SLAS260A; PackageVersion: 4040064-7/G, 02/2011; PackageReference: PW28; PackageDescription: 28-Pin Plastic Small Outline, Body 9.7 x 4.4 mm, Pitch 0.65 mm; Supplier 1: Digi-Key; Supplier Part Number 1: THS5651AIPWG4-ND; Supplier 2: Mouser; Supplier Part Number 2: 595-THS5651AIPWG4; Eco-Plan: Green (RoHS & no Sb/Br); INL(Max)(+/-LSB): 1; Mounting Technology: Surface Mount; Code_JEDEC: MO-153; ComponentLink1Description: Manufacturer URL; ComponentLink1URL: http://www.ti.com/; ComponentLink2Description: Datasheet; ComponentLink2URL: http://www.ti.com/general/docs/lit/getliterature.tsp?genericPartNumber=THS5651A&fileType=pdf; ComponentLink3Description: Package Specification; ComponentLink3URL: http://www.ti.com/litv/pdf/mpds364
footprint TI-PW28_N (SOP, 28-Leads, Body 9.7x4.4mm, Pitch 0.65mm, IPC Medium Density)
footprint TI-PW28_L (SOP, 28-Leads, Body 9.7x4.4mm, Pitch 0.65mm, IPC High Density)
footprint TI-PW28_M (SOP, 28-Leads, Body 9.7x4.4mm, Pitch 0.65mm, IPC Low Density)
pins: 1 D9 (MSB) (in) "Data bits 0 through 9. D9 is most significant data bit (MSB), D0 is least significant data bit (LSB).", 2 D8 (in) "Data bits 0 through 9. D9 is most significant data bit (MSB), D0 is least significant data bit (LSB).", 3 D7 (in) "Data bits 0 through 9. D9 is most significant data bit (MSB), D0 is least significant data bit (LSB).", 4 D6 (in) "Data bits 0 through 9. D9 is most significant data bit (MSB), D0 is least significant data bit (LSB).", 5 D5 (in) "Data bits 0 through 9. D9 is most significant data bit (MSB), D0 is least significant data bit (LSB).", 6 D4 (in) "Data bits 0 through 9. D9 is most significant data bit (MSB), D0 is least significant data bit (LSB).", 7 D3 (in) "Data bits 0 through 9. D9 is most significant data bit (MSB), D0 is least significant data bit (LSB).", 8 D2 (in) "Data bits 0 through 9. D9 is most significant data bit (MSB), D0 is least significant data bit (LSB).", 9 D1 (in) "Data bits 0 through 9. D9 is most significant data bit (MSB), D0 is least significant data bit (LSB).", 10 D0 (LSB) (in) "Data bits 0 through 9. D9 is most significant data bit (MSB), D0 is least significant data bit (LSB).", 11 NC "No connection", 12 NC "No connection", 13 NC "No connection", 14 NC "No connection", 15 SLEEP (in) "Asynchronous hardware power down input. Active High. Internal pulldown. Requires 5 us to power down but 3 ms to power up.", 16 EXTLO "Internal reference ground. Connect to AVDD to disable the internal reference source", 17 EXTIO (io) "Used as external reference input when internal reference is disabled (i.e., EXTLO = AVDD). Used as internal reference output when EXTLO = AGND, requires a 0.1 uF decoupling capacitor to AGND when used as reference output", 18 BIASJ "Full-scale output current bias", 19 COMP1 "Compensation and decoupling node, requires a 0.1 uF capacitor to AVDD.", 20 AGND (power) "Analog ground return for the internal analog circuitry", 21 IOUT2 (hiz) "Complementary DAC current output. Full scale when all input bits are 0", 22 IOUT1 (hiz) "DAC current output. Full scale when all input bits are set 1", 23 COMP2 "Internal bias node, requires a 0.1 uF decoupling capacitor to AGND.", 24 AVDD (power) "Positive analog supply voltage (3 V to 5.5 V)", 25 MODE (in) "Mode select. Internal pulldown. Mode 0 is selected if this pin is left floating or connected to DGND. See timing diagram.", 26 DGND (power) "Digital ground return for the internal digital logic circuitry", 27 DVDD (power) "Positive digital supply voltage (3 V to 5.5 V)", 28 CLK (in) "External clock input. Input data latched on rising edge of the clock."

## THS5651AIPWR
designator U?
10-Bit, 125 MSPS, CommsDAC, Differential Scalable Current Outputs between 2 to 20 mA, -40 to 85 degC, 28-pin SOP (PW28), Green (RoHS & no Sb/Br); Manufacturer: Texas Instruments; PartNumber: THS5651AIPWR; DAC Channels: 1; DNL(Max)(+/-LSB): 0.5; Interface: Parallel CMOS; Power Consumption(Typ)(mW): 175; Resolution(Bits): 10; Settling Time(us): 0.035; SFDR(dB): 79; SubFamily: High Speed DAC (>10MSPS); DatasheetVersion: SLAS260A; PackageVersion: 4040064-7/G, 02/2011; PackageReference: PW28; PackageDescription: 28-Pin Plastic Small Outline, Body 9.7 x 4.4 mm, Pitch 0.65 mm; Supplier 1: Digi-Key; Supplier Part Number 1: THS5651AIPWR-ND; Supplier 2: Newark; Supplier Part Number 2: 76C6494; Supplier 3: Mouser; Supplier Part Number 3: 595-THS5651AIPWR; Eco-Plan: Green (RoHS & no Sb/Br); INL(Max)(+/-LSB): 1; Mounting Technology: Surface Mount; Code_JEDEC: MO-153; ComponentLink1Description: Manufacturer URL; ComponentLink1URL: http://www.ti.com/; ComponentLink2Description: Datasheet; ComponentLink2URL: http://www.ti.com/general/docs/lit/getliterature.tsp?genericPartNumber=THS5651A&fileType=pdf; ComponentLink3Description: Package Specification; ComponentLink3URL: http://www.ti.com/litv/pdf/mpds364
footprint TI-PW28_N (SOP, 28-Leads, Body 9.7x4.4mm, Pitch 0.65mm, IPC Medium Density)
footprint TI-PW28_L (SOP, 28-Leads, Body 9.7x4.4mm, Pitch 0.65mm, IPC High Density)
footprint TI-PW28_M (SOP, 28-Leads, Body 9.7x4.4mm, Pitch 0.65mm, IPC Low Density)
pins: 1 D9 (MSB) (in) "Data bits 0 through 9. D9 is most significant data bit (MSB), D0 is least significant data bit (LSB).", 2 D8 (in) "Data bits 0 through 9. D9 is most significant data bit (MSB), D0 is least significant data bit (LSB).", 3 D7 (in) "Data bits 0 through 9. D9 is most significant data bit (MSB), D0 is least significant data bit (LSB).", 4 D6 (in) "Data bits 0 through 9. D9 is most significant data bit (MSB), D0 is least significant data bit (LSB).", 5 D5 (in) "Data bits 0 through 9. D9 is most significant data bit (MSB), D0 is least significant data bit (LSB).", 6 D4 (in) "Data bits 0 through 9. D9 is most significant data bit (MSB), D0 is least significant data bit (LSB).", 7 D3 (in) "Data bits 0 through 9. D9 is most significant data bit (MSB), D0 is least significant data bit (LSB).", 8 D2 (in) "Data bits 0 through 9. D9 is most significant data bit (MSB), D0 is least significant data bit (LSB).", 9 D1 (in) "Data bits 0 through 9. D9 is most significant data bit (MSB), D0 is least significant data bit (LSB).", 10 D0 (LSB) (in) "Data bits 0 through 9. D9 is most significant data bit (MSB), D0 is least significant data bit (LSB).", 11 NC "No connection", 12 NC "No connection", 13 NC "No connection", 14 NC "No connection", 15 SLEEP (in) "Asynchronous hardware power down input. Active High. Internal pulldown. Requires 5 us to power down but 3 ms to power up.", 16 EXTLO "Internal reference ground. Connect to AVDD to disable the internal reference source", 17 EXTIO (io) "Used as external reference input when internal reference is disabled (i.e., EXTLO = AVDD). Used as internal reference output when EXTLO = AGND, requires a 0.1 uF decoupling capacitor to AGND when used as reference output", 18 BIASJ "Full-scale output current bias", 19 COMP1 "Compensation and decoupling node, requires a 0.1 uF capacitor to AVDD.", 20 AGND (power) "Analog ground return for the internal analog circuitry", 21 IOUT2 (hiz) "Complementary DAC current output. Full scale when all input bits are 0", 22 IOUT1 (hiz) "DAC current output. Full scale when all input bits are set 1", 23 COMP2 "Internal bias node, requires a 0.1 uF decoupling capacitor to AGND.", 24 AVDD (power) "Positive analog supply voltage (3 V to 5.5 V)", 25 MODE (in) "Mode select. Internal pulldown. Mode 0 is selected if this pin is left floating or connected to DGND. See timing diagram.", 26 DGND (power) "Digital ground return for the internal digital logic circuitry", 27 DVDD (power) "Positive digital supply voltage (3 V to 5.5 V)", 28 CLK (in) "External clock input. Input data latched on rising edge of the clock."

## THS5651AIPWRG4
designator U?
10-Bit, 125 MSPS, CommsDAC, Differential Scalable Current Outputs between 2 to 20 mA, -40 to 85 degC, 28-pin SOP (PW28), Green (RoHS & no Sb/Br); Manufacturer: Texas Instruments; PartNumber: THS5651AIPWRG4; DAC Channels: 1; DNL(Max)(+/-LSB): 0.5; Interface: Parallel CMOS; Power Consumption(Typ)(mW): 175; Resolution(Bits): 10; Settling Time(us): 0.035; SFDR(dB): 79; SubFamily: High Speed DAC (>10MSPS); DatasheetVersion: SLAS260A; PackageVersion: 4040064-7/G, 02/2011; PackageReference: PW28; PackageDescription: 28-Pin Plastic Small Outline, Body 9.7 x 4.4 mm, Pitch 0.65 mm; Supplier 1: Digi-Key; Supplier Part Number 1: THS5651AIPWRG4-ND; Supplier 2: Newark; Supplier Part Number 2: 54K0770; Supplier 3: Mouser; Supplier Part Number 3: 595-THS5651AIPWRG4; Eco-Plan: Green (RoHS & no Sb/Br); INL(Max)(+/-LSB): 1; Mounting Technology: Surface Mount; Code_JEDEC: MO-153; ComponentLink1Description: Manufacturer URL; ComponentLink1URL: http://www.ti.com/; ComponentLink2Description: Datasheet; ComponentLink2URL: http://www.ti.com/general/docs/lit/getliterature.tsp?genericPartNumber=THS5651A&fileType=pdf; ComponentLink3Description: Package Specification; ComponentLink3URL: http://www.ti.com/litv/pdf/mpds364
footprint TI-PW28_N (SOP, 28-Leads, Body 9.7x4.4mm, Pitch 0.65mm, IPC Medium Density)
footprint TI-PW28_L (SOP, 28-Leads, Body 9.7x4.4mm, Pitch 0.65mm, IPC High Density)
footprint TI-PW28_M (SOP, 28-Leads, Body 9.7x4.4mm, Pitch 0.65mm, IPC Low Density)
pins: 1 D9 (MSB) (in) "Data bits 0 through 9. D9 is most significant data bit (MSB), D0 is least significant data bit (LSB).", 2 D8 (in) "Data bits 0 through 9. D9 is most significant data bit (MSB), D0 is least significant data bit (LSB).", 3 D7 (in) "Data bits 0 through 9. D9 is most significant data bit (MSB), D0 is least significant data bit (LSB).", 4 D6 (in) "Data bits 0 through 9. D9 is most significant data bit (MSB), D0 is least significant data bit (LSB).", 5 D5 (in) "Data bits 0 through 9. D9 is most significant data bit (MSB), D0 is least significant data bit (LSB).", 6 D4 (in) "Data bits 0 through 9. D9 is most significant data bit (MSB), D0 is least significant data bit (LSB).", 7 D3 (in) "Data bits 0 through 9. D9 is most significant data bit (MSB), D0 is least significant data bit (LSB).", 8 D2 (in) "Data bits 0 through 9. D9 is most significant data bit (MSB), D0 is least significant data bit (LSB).", 9 D1 (in) "Data bits 0 through 9. D9 is most significant data bit (MSB), D0 is least significant data bit (LSB).", 10 D0 (LSB) (in) "Data bits 0 through 9. D9 is most significant data bit (MSB), D0 is least significant data bit (LSB).", 11 NC "No connection", 12 NC "No connection", 13 NC "No connection", 14 NC "No connection", 15 SLEEP (in) "Asynchronous hardware power down input. Active High. Internal pulldown. Requires 5 us to power down but 3 ms to power up.", 16 EXTLO "Internal reference ground. Connect to AVDD to disable the internal reference source", 17 EXTIO (io) "Used as external reference input when internal reference is disabled (i.e., EXTLO = AVDD). Used as internal reference output when EXTLO = AGND, requires a 0.1 uF decoupling capacitor to AGND when used as reference output", 18 BIASJ "Full-scale output current bias", 19 COMP1 "Compensation and decoupling node, requires a 0.1 uF capacitor to AVDD.", 20 AGND (power) "Analog ground return for the internal analog circuitry", 21 IOUT2 (hiz) "Complementary DAC current output. Full scale when all input bits are 0", 22 IOUT1 (hiz) "DAC current output. Full scale when all input bits are set 1", 23 COMP2 "Internal bias node, requires a 0.1 uF decoupling capacitor to AGND.", 24 AVDD (power) "Positive analog supply voltage (3 V to 5.5 V)", 25 MODE (in) "Mode select. Internal pulldown. Mode 0 is selected if this pin is left floating or connected to DGND. See timing diagram.", 26 DGND (power) "Digital ground return for the internal digital logic circuitry", 27 DVDD (power) "Positive digital supply voltage (3 V to 5.5 V)", 28 CLK (in) "External clock input. Input data latched on rising edge of the clock."

## THS5661AIDW
designator U?
12-Bit, 125 MSPS, CommsDAC, Differential Scalable Current Outputs between 2 to 20 mA, -40 to 85 degC, 28-pin SOIC (DW28), Green (RoHS & no Sb/Br); Manufacturer: Texas Instruments; PartNumber: THS5661AIDW; DAC Channels: 1; DNL(Max)(+/-LSB): 2; INL(Max)(+/-LSB): 4; Interface: Parallel CMOS; Power Consumption(Typ)(mW): 175; Resolution(Bits): 12; Settling Time(us): 0.035; SFDR(dB): 82; SubFamily: High Speed DAC (>10MSPS); DatasheetVersion: SLAS247B; PackageVersion: 4040000-6/G, 01/2011; PackageReference: DW28; PackageDescription: 28-Pin Plastic Small Outline, Body 17.90 x 7.50 mm, Pitch 1.27 mm; Supplier 1: Digi-Key; Supplier Part Number 1: 296-2995-5-ND; Supplier 2: Newark; Supplier Part Number 2: 19C8979; Supplier 3: Mouser; Supplier Part Number 3: 595-THS5661AIDW; Eco-Plan: Green (RoHS & no Sb/Br); Mounting Technology: Surface Mount; Code_JEDEC: MS-013; ComponentLink1Description: Manufacturer URL; ComponentLink1URL: http://www.ti.com/; ComponentLink2Description: Datasheet; ComponentLink2URL: http://www.ti.com/general/docs/lit/getliterature.tsp?genericPartNumber=THS5661A&fileType=pdf; ComponentLink3Description: Package Specification; ComponentLink3URL: http://www.ti.com/lit/ml/mpds175a/mpds175a.pdf
footprint TI-DW28_N (SOIC, 28-Leads, Body 17.9x7.5mm, Pitch 1.27mm, IPC Medium Density)
footprint TI-DW28_L (SOIC, 28-Leads, Body 17.9x7.5mm, Pitch 1.27mm, IPC High Density)
footprint TI-DW28_M (SOIC, 28-Leads, Body 17.9x7.5mm, Pitch 1.27mm, IPC Low Density)
pins: 1 D11 (MSB) (in) "Data bit 11. D11 is most significant data bit (MSB).", 2 D10 (in) "Data bit 10.", 3 D9 (in) "Data bit 9.", 4 D8 (in) "Data bit 8.", 5 D7 (in) "Data bit 7.", 6 D6 (in) "Data bit 6.", 7 D5 (in) "Data bit 5.", 8 D4 (in) "Data bit 4.", 9 D3 (in) "Data bit 3.", 10 D2 (in) "Data bit 2.", 11 D1 (in) "Data bit 1.", 12 D0 (LSB) (in) "Data bit 0. D0 is least significant data bit (LSB).", 13 NC "No connection", 14 NC "No connection", 15 SLEEP (in) "Asynchronous hardware power down input. Active high. Internal pulldown. Requires 5 Us to power down but 3 ms to power up.", 16 EXTLO "Internal reference ground. Connect to AVDD to disable the internal reference source.", 17 EXTIO (io) "Used as external reference input when internal reference is disabled (i.e., EXTLO = AVDD). Used as internal reference output when EXTLO = AGND, requires a 0.1 uF decoupling capacitor to AGND when used as reference output.", 18 BIASJ "Full-scale output current bias", 19 COMP1 "Compensation and decoupling node, requires a 0.1 uF capacitor to AVDD.", 20 AGND (power) "Analog ground return for the internal analog circuitry", 21 IOUT2 (hiz) "Complementary DAC current output. Full scale when all input bits are 0", 22 IOUT1 (hiz) "DAC current output. Full scale when all input bits are set 1", 23 COMP2 "Internal bias node, requires a 0.1 uF decoupling capacitor to AGND.", 24 AVDD (power) "Positive analog supply voltage (3 V to 5.5 V)", 25 MODE (in) "Mode select. Internal pulldown. Mode 0 is selected if this pin is left floating or connected to DGND. See timing diagram.", 26 DGND (power) "Digital ground return for the internal digital logic circuitry", 27 DVDD (power) "Positive digital supply voltage (3 V to 5.5 V)", 28 CLK (in) "External clock input. Input data latched on rising edge of the clock."

## THS5661AIDWG4
designator U?
12-Bit, 125 MSPS, CommsDAC, Differential Scalable Current Outputs between 2 to 20 mA, -40 to 85 degC, 28-pin SOIC (DW28), Green (RoHS & no Sb/Br); Manufacturer: Texas Instruments; PartNumber: THS5661AIDWG4; DAC Channels: 1; DNL(Max)(+/-LSB): 2; INL(Max)(+/-LSB): 4; Interface: Parallel CMOS; Power Consumption(Typ)(mW): 175; Resolution(Bits): 12; Settling Time(us): 0.035; SFDR(dB): 82; SubFamily: High Speed DAC (>10MSPS); DatasheetVersion: SLAS247B; PackageVersion: 4040000-6/G, 01/2011; PackageReference: DW28; PackageDescription: 28-Pin Plastic Small Outline, Body 17.90 x 7.50 mm, Pitch 1.27 mm; Supplier 1: Digi-Key; Supplier Part Number 1: THS5661AIDWG4-ND; Supplier 2: Mouser; Supplier Part Number 2: 595-THS5661AIDWG4; Eco-Plan: Green (RoHS & no Sb/Br); Mounting Technology: Surface Mount; Code_JEDEC: MS-013; ComponentLink1Description: Manufacturer URL; ComponentLink1URL: http://www.ti.com/; ComponentLink2Description: Datasheet; ComponentLink2URL: http://www.ti.com/general/docs/lit/getliterature.tsp?genericPartNumber=THS5661A&fileType=pdf; ComponentLink3Description: Package Specification; ComponentLink3URL: http://www.ti.com/lit/ml/mpds175a/mpds175a.pdf
footprint TI-DW28_N (SOIC, 28-Leads, Body 17.9x7.5mm, Pitch 1.27mm, IPC Medium Density)
footprint TI-DW28_L (SOIC, 28-Leads, Body 17.9x7.5mm, Pitch 1.27mm, IPC High Density)
footprint TI-DW28_M (SOIC, 28-Leads, Body 17.9x7.5mm, Pitch 1.27mm, IPC Low Density)
pins: 1 D11 (MSB) (in) "Data bit 11. D11 is most significant data bit (MSB).", 2 D10 (in) "Data bit 10.", 3 D9 (in) "Data bit 9.", 4 D8 (in) "Data bit 8.", 5 D7 (in) "Data bit 7.", 6 D6 (in) "Data bit 6.", 7 D5 (in) "Data bit 5.", 8 D4 (in) "Data bit 4.", 9 D3 (in) "Data bit 3.", 10 D2 (in) "Data bit 2.", 11 D1 (in) "Data bit 1.", 12 D0 (LSB) (in) "Data bit 0. D0 is least significant data bit (LSB).", 13 NC "No connection", 14 NC "No connection", 15 SLEEP (in) "Asynchronous hardware power down input. Active high. Internal pulldown. Requires 5 Us to power down but 3 ms to power up.", 16 EXTLO "Internal reference ground. Connect to AVDD to disable the internal reference source.", 17 EXTIO (io) "Used as external reference input when internal reference is disabled (i.e., EXTLO = AVDD). Used as internal reference output when EXTLO = AGND, requires a 0.1 uF decoupling capacitor to AGND when used as reference output.", 18 BIASJ "Full-scale output current bias", 19 COMP1 "Compensation and decoupling node, requires a 0.1 uF capacitor to AVDD.", 20 AGND (power) "Analog ground return for the internal analog circuitry", 21 IOUT2 (hiz) "Complementary DAC current output. Full scale when all input bits are 0", 22 IOUT1 (hiz) "DAC current output. Full scale when all input bits are set 1", 23 COMP2 "Internal bias node, requires a 0.1 uF decoupling capacitor to AGND.", 24 AVDD (power) "Positive analog supply voltage (3 V to 5.5 V)", 25 MODE (in) "Mode select. Internal pulldown. Mode 0 is selected if this pin is left floating or connected to DGND. See timing diagram.", 26 DGND (power) "Digital ground return for the internal digital logic circuitry", 27 DVDD (power) "Positive digital supply voltage (3 V to 5.5 V)", 28 CLK (in) "External clock input. Input data latched on rising edge of the clock."